# Altium footprint library Connector_JST.PcbLib: 558 footprints (part 28 of 35)
Each footprint in its own frame and in the unit in brackets; x right, y up, seen from the top. Pads: shape width x height; smd on the part's side, far side on the other; paste and mask are expansions set on the pad; w line width, h text height; cw(c..) or ccw(c..) is an arc to the next point about the centre after c.
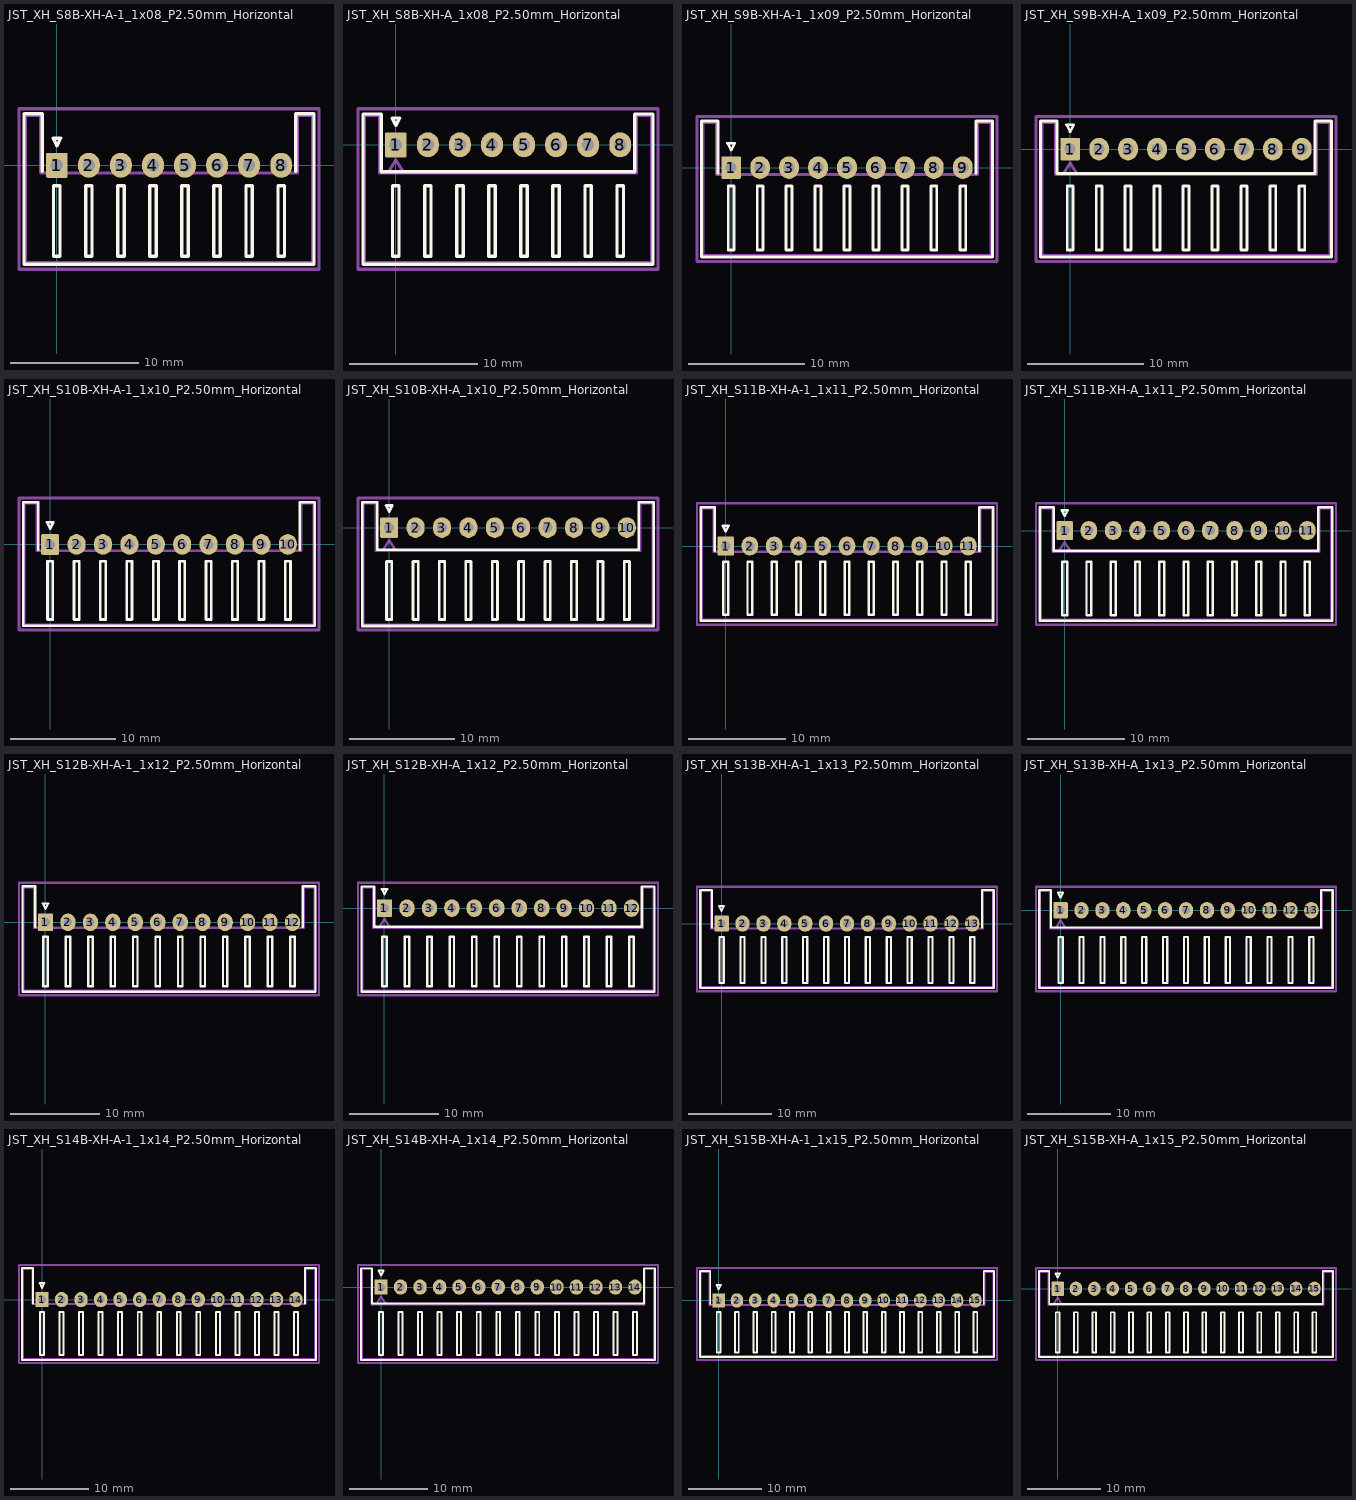
[diagram p27: the footprints below, top view; thin cyan lines are the x and y axes]

## JST_XH_S8B-XH-A-1_1x08_P2.50mm_Horizontal [mm] "JST_XH_S8B-XH-A-1_1x08_P2.50mm_Horizontal"
pads (8):
  rrect15% 1.7x1.95 hole 0.95: 1(0,0)
  rrect100% 1.7x1.95 hole 0.95: 2(2.5,0) 3(5,0) 4(7.5,0) 5(10,0) 6(12.5,0) 7(15,0) 8(17.5,0)
F.SilkS:
  lines w0.254: -1.14,-0.49 -1.14,4.01 -2.56,4.01 -2.56,-7.71 8.75,-7.71 20.06,-7.71 20.06,4.01 18.64,4.01 18.64,-0.49 ; -0.3,2.1 0,1.5 0.3,2.1 -0.3,2.1 ; -0.25,-7.1 0.25,-7.1 0.25,-1.6 -0.25,-1.6 -0.25,-7.1 ; 2.25,-7.1 2.75,-7.1 2.75,-1.6 2.25,-1.6 2.25,-7.1 ; 4.75,-7.1 5.25,-7.1 5.25,-1.6 4.75,-1.6 4.75,-7.1 ; 7.25,-7.1 7.75,-7.1 7.75,-1.6 7.25,-1.6 7.25,-7.1 ; 9.75,-7.1 10.25,-7.1 10.25,-1.6 9.75,-1.6 9.75,-7.1 ; 12.25,-7.1 12.75,-7.1 12.75,-1.6 12.25,-1.6 12.25,-7.1 ; 14.75,-7.1 15.25,-7.1 15.25,-1.6 14.75,-1.6 14.75,-7.1 ; 17.25,-7.1 17.75,-7.1 17.75,-1.6 17.25,-1.6 17.25,-7.1
Top Component Center:
  lines w0.127: -0.127,0 0.127,0 ; 0,-0.127 0,0.127
Top Assembly:
  lines w0.254: -0.625,-0.6 0,0.4 0.625,-0.6 ; -2.45,-7.6 8.75,-7.6 19.95,-7.6 19.95,3.9 18.75,3.9 18.75,-0.6 8.75,-0.6 -1.25,-0.6 -1.25,3.9 -2.45,3.9 -2.45,-7.6
Top Courtyard:
  lines w0.254: -2.95,-8.1 20.45,-8.1 20.45,4.4 -2.95,4.4 -2.95,-8.1
Top Designator:
  text ".Designator" at 4.952,2.196 h1.52
3D body "JST_XH_S8B-XH-A-1_1x08_P2.50mm_Horizontal.step": height 6.1, standoff -3.4, extent -2.45,-7.6 19.95,3.9

## JST_XH_S8B-XH-A_1x08_P2.50mm_Horizontal [mm] "JST_XH_S8B-XH-A_1x08_P2.50mm_Horizontal"
pads (8):
  rrect15% 1.7x1.95 hole 0.95: 1(0,0)
  rrect100% 1.7x1.95 hole 0.95: 2(2.5,0) 3(5,0) 4(7.5,0) 5(10,0) 6(12.5,0) 7(15,0) 8(17.5,0)
F.SilkS:
  lines w0.254: -2.56,-9.31 8.75,-9.31 20.06,-9.31 20.06,2.41 18.64,2.41 18.64,-2.09 8.75,-2.09 -1.14,-2.09 -1.14,2.41 -2.56,2.41 -2.56,-9.31 ; -0.3,2.1 0,1.5 0.3,2.1 -0.3,2.1 ; -0.25,-8.7 0.25,-8.7 0.25,-3.2 -0.25,-3.2 -0.25,-8.7 ; 2.25,-8.7 2.75,-8.7 2.75,-3.2 2.25,-3.2 2.25,-8.7 ; 4.75,-8.7 5.25,-8.7 5.25,-3.2 4.75,-3.2 4.75,-8.7 ; 7.25,-8.7 7.75,-8.7 7.75,-3.2 7.25,-3.2 7.25,-8.7 ; 9.75,-8.7 10.25,-8.7 10.25,-3.2 9.75,-3.2 9.75,-8.7 ; 12.25,-8.7 12.75,-8.7 12.75,-3.2 12.25,-3.2 12.25,-8.7 ; 14.75,-8.7 15.25,-8.7 15.25,-3.2 14.75,-3.2 14.75,-8.7 ; 17.25,-8.7 17.75,-8.7 17.75,-3.2 17.25,-3.2 17.25,-8.7
Top Component Center:
  lines w0.127: -0.127,0 0.127,0 ; 0,-0.127 0,0.127
Top Assembly:
  lines w0.254: -0.625,-2.2 0,-1.2 0.625,-2.2 ; -2.45,-9.2 8.75,-9.2 19.95,-9.2 19.95,2.3 18.75,2.3 18.75,-2.2 8.75,-2.2 -1.25,-2.2 -1.25,2.3 -2.45,2.3 -2.45,-9.2
Top Courtyard:
  lines w0.254: -2.95,-9.7 20.45,-9.7 20.45,2.81 -2.95,2.81 -2.95,-9.7
Top Designator:
  text ".Designator" at 5.206,1.434 h1.52
3D body "JST_XH_S8B-XH-A_1x08_P2.50mm_Horizontal.step": height 6.1, standoff -3.4, extent -2.45,-9.2 19.95,2.3

## JST_XH_S9B-XH-A-1_1x09_P2.50mm_Horizontal [mm] "JST_XH_S9B-XH-A-1_1x09_P2.50mm_Horizontal"
pads (9):
  rrect15% 1.7x1.95 hole 0.95: 1(0,0)
  rrect100% 1.7x1.95 hole 0.95: 2(2.5,0) 3(5,0) 4(7.5,0) 5(10,0) 6(12.5,0) 7(15,0) 8(17.5,0) 9(20,0)
F.SilkS:
  lines w0.254: -1.14,-0.49 -1.14,4.01 -2.56,4.01 -2.56,-7.71 10,-7.71 22.56,-7.71 22.56,4.01 21.14,4.01 21.14,-0.49 ; -0.3,2.1 0.3,2.1 0,1.5 -0.3,2.1 ; -0.25,-7.1 -0.25,-1.6 0.25,-1.6 0.25,-7.1 -0.25,-7.1 ; 2.25,-7.1 2.25,-1.6 2.75,-1.6 2.75,-7.1 2.25,-7.1 ; 4.75,-7.1 4.75,-1.6 5.25,-1.6 5.25,-7.1 4.75,-7.1 ; 7.25,-7.1 7.25,-1.6 7.75,-1.6 7.75,-7.1 7.25,-7.1 ; 9.75,-7.1 9.75,-1.6 10.25,-1.6 10.25,-7.1 9.75,-7.1 ; 12.25,-7.1 12.25,-1.6 12.75,-1.6 12.75,-7.1 12.25,-7.1 ; 14.75,-7.1 14.75,-1.6 15.25,-1.6 15.25,-7.1 14.75,-7.1 ; 17.25,-7.1 17.25,-1.6 17.75,-1.6 17.75,-7.1 17.25,-7.1 ; 19.75,-7.1 19.75,-1.6 20.25,-1.6 20.25,-7.1 19.75,-7.1
Top Component Center:
  lines w0.127: -0.127,0 0.127,0 ; 0,-0.127 0,0.127
Top Assembly:
  lines w0.254: -0.625,-0.6 0,0.4 0.625,-0.6 ; -2.45,-7.6 -2.45,3.9 -1.25,3.9 -1.25,-0.6 10,-0.6 21.25,-0.6 21.25,3.9 22.45,3.9 22.45,-7.6 10,-7.6 -2.45,-7.6
Top Courtyard:
  lines w0.254: -2.95,-8.1 -2.95,4.4 22.95,4.4 22.95,-8.1 -2.95,-8.1
Top Designator:
  text ".Designator" at 6.603,2.323 h1.52
3D body "JST_XH_S9B-XH-A-1_1x09_P2.50mm_Horizontal.step": height 6.1, standoff -3.4, extent -2.45,-7.6 22.45,3.9

## JST_XH_S9B-XH-A_1x09_P2.50mm_Horizontal [mm] "JST_XH_S9B-XH-A_1x09_P2.50mm_Horizontal"
pads (9):
  rrect15% 1.7x1.95 hole 0.95: 1(0,0)
  rrect100% 1.7x1.95 hole 0.95: 2(2.5,0) 3(5,0) 4(7.5,0) 5(10,0) 6(12.5,0) 7(15,0) 8(17.5,0) 9(20,0)
F.SilkS:
  lines w0.254: -2.56,-9.31 10,-9.31 22.56,-9.31 22.56,2.41 21.14,2.41 21.14,-2.09 10,-2.09 -1.14,-2.09 -1.14,2.41 -2.56,2.41 -2.56,-9.31 ; -0.3,2.1 0,1.5 0.3,2.1 -0.3,2.1 ; -0.25,-8.7 0.25,-8.7 0.25,-3.2 -0.25,-3.2 -0.25,-8.7 ; 2.25,-8.7 2.75,-8.7 2.75,-3.2 2.25,-3.2 2.25,-8.7 ; 4.75,-8.7 5.25,-8.7 5.25,-3.2 4.75,-3.2 4.75,-8.7 ; 7.25,-8.7 7.75,-8.7 7.75,-3.2 7.25,-3.2 7.25,-8.7 ; 9.75,-8.7 10.25,-8.7 10.25,-3.2 9.75,-3.2 9.75,-8.7 ; 12.25,-8.7 12.75,-8.7 12.75,-3.2 12.25,-3.2 12.25,-8.7 ; 14.75,-8.7 15.25,-8.7 15.25,-3.2 14.75,-3.2 14.75,-8.7 ; 17.25,-8.7 17.75,-8.7 17.75,-3.2 17.25,-3.2 17.25,-8.7 ; 19.75,-8.7 20.25,-8.7 20.25,-3.2 19.75,-3.2 19.75,-8.7
Top Component Center:
  lines w0.127: -0.127,0 0.127,0 ; 0,-0.127 0,0.127
Top Assembly:
  lines w0.254: -0.625,-2.2 0,-1.2 0.625,-2.2 ; -2.45,-9.2 10,-9.2 22.45,-9.2 22.45,2.3 21.25,2.3 21.25,-2.2 10,-2.2 -1.25,-2.2 -1.25,2.3 -2.45,2.3 -2.45,-9.2
Top Courtyard:
  lines w0.254: -2.95,-9.7 22.95,-9.7 22.95,2.81 -2.95,2.81 -2.95,-9.7
Top Designator:
  text ".Designator" at 6.222,1.561 h1.52
3D body "JST_XH_S9B-XH-A_1x09_P2.50mm_Horizontal.step": height 6.1, standoff -3.4, extent -2.45,-9.2 22.45,2.3

## JST_XH_S10B-XH-A-1_1x10_P2.50mm_Horizontal [mm] "JST_XH_S10B-XH-A-1_1x10_P2.50mm_Horizontal"
pads (10):
  rrect15% 1.7x1.95 hole 0.95: 1(0,0)
  rrect100% 1.7x1.95 hole 0.95: 2(2.5,0) 3(5,0) 4(7.5,0) 5(10,0) 6(12.5,0) 7(15,0) 8(17.5,0) 9(20,0) 10(22.5,0)
F.SilkS:
  lines w0.254: -1.14,-0.49 -1.14,4.01 -2.56,4.01 -2.56,-7.71 11.25,-7.71 25.06,-7.71 25.06,4.01 23.64,4.01 23.64,-0.49 ; -0.3,2.1 0.3,2.1 0,1.5 -0.3,2.1 ; -0.25,-7.1 -0.25,-1.6 0.25,-1.6 0.25,-7.1 -0.25,-7.1 ; 2.25,-7.1 2.25,-1.6 2.75,-1.6 2.75,-7.1 2.25,-7.1 ; 4.75,-7.1 4.75,-1.6 5.25,-1.6 5.25,-7.1 4.75,-7.1 ; 7.25,-7.1 7.25,-1.6 7.75,-1.6 7.75,-7.1 7.25,-7.1 ; 9.75,-7.1 9.75,-1.6 10.25,-1.6 10.25,-7.1 9.75,-7.1 ; 12.25,-7.1 12.25,-1.6 12.75,-1.6 12.75,-7.1 12.25,-7.1 ; 14.75,-7.1 14.75,-1.6 15.25,-1.6 15.25,-7.1 14.75,-7.1 ; 17.25,-7.1 17.25,-1.6 17.75,-1.6 17.75,-7.1 17.25,-7.1 ; 19.75,-7.1 19.75,-1.6 20.25,-1.6 20.25,-7.1 19.75,-7.1 ; 22.25,-7.1 22.25,-1.6 22.75,-1.6 22.75,-7.1 22.25,-7.1
Top Component Center:
  lines w0.127: -0.127,0 0.127,0 ; 0,-0.127 0,0.127
Top Assembly:
  lines w0.254: -0.625,-0.6 0,0.4 0.625,-0.6 ; -2.45,-7.6 -2.45,3.9 -1.25,3.9 -1.25,-0.6 11.25,-0.6 23.75,-0.6 23.75,3.9 24.95,3.9 24.95,-7.6 11.25,-7.6 -2.45,-7.6
Top Courtyard:
  lines w0.254: -2.95,-8.1 -2.95,4.4 25.45,4.4 25.45,-8.1 -2.95,-8.1
Top Designator:
  text ".Designator" at 7.873,1.815 h1.52
3D body "JST_XH_S10B-XH-A-1_1x10_P2.50mm_Horizontal.step": height 6.1, standoff -3.4, extent -2.45,-7.6 24.95,3.9

## JST_XH_S10B-XH-A_1x10_P2.50mm_Horizontal [mm] "JST_XH_S10B-XH-A_1x10_P2.50mm_Horizontal"
pads (10):
  rrect15% 1.7x1.95 hole 0.95: 1(0,0)
  rrect100% 1.7x1.95 hole 0.95: 2(2.5,0) 3(5,0) 4(7.5,0) 5(10,0) 6(12.5,0) 7(15,0) 8(17.5,0) 9(20,0) 10(22.5,0)
F.SilkS:
  lines w0.254: -2.56,-9.31 -2.56,2.41 -1.14,2.41 -1.14,-2.09 11.25,-2.09 23.64,-2.09 23.64,2.41 25.06,2.41 25.06,-9.31 11.25,-9.31 -2.56,-9.31 ; -0.3,2.1 0.3,2.1 0,1.5 -0.3,2.1 ; -0.25,-8.7 -0.25,-3.2 0.25,-3.2 0.25,-8.7 -0.25,-8.7 ; 2.25,-8.7 2.25,-3.2 2.75,-3.2 2.75,-8.7 2.25,-8.7 ; 4.75,-8.7 4.75,-3.2 5.25,-3.2 5.25,-8.7 4.75,-8.7 ; 7.25,-8.7 7.25,-3.2 7.75,-3.2 7.75,-8.7 7.25,-8.7 ; 9.75,-8.7 9.75,-3.2 10.25,-3.2 10.25,-8.7 9.75,-8.7 ; 12.25,-8.7 12.25,-3.2 12.75,-3.2 12.75,-8.7 12.25,-8.7 ; 14.75,-8.7 14.75,-3.2 15.25,-3.2 15.25,-8.7 14.75,-8.7 ; 17.25,-8.7 17.25,-3.2 17.75,-3.2 17.75,-8.7 17.25,-8.7 ; 19.75,-8.7 19.75,-3.2 20.25,-3.2 20.25,-8.7 19.75,-8.7 ; 22.25,-8.7 22.25,-3.2 22.75,-3.2 22.75,-8.7 22.25,-8.7
Top Component Center:
  lines w0.127: -0.127,0 0.127,0 ; 0,-0.127 0,0.127
Top Assembly:
  lines w0.254: -0.625,-2.2 0,-1.2 0.625,-2.2 ; -2.45,-9.2 -2.45,2.3 -1.25,2.3 -1.25,-2.2 11.25,-2.2 23.75,-2.2 23.75,2.3 24.95,2.3 24.95,-9.2 11.25,-9.2 -2.45,-9.2
Top Courtyard:
  lines w0.254: -2.95,-9.7 -2.95,2.81 25.45,2.81 25.45,-9.7 -2.95,-9.7
Top Designator:
  text ".Designator" at 7.746,1.307 h1.52
3D body "JST_XH_S10B-XH-A_1x10_P2.50mm_Horizontal.step": height 6.1, standoff -3.4, extent -2.45,-9.2 24.95,2.3

## JST_XH_S11B-XH-A-1_1x11_P2.50mm_Horizontal [mm] "JST_XH_S11B-XH-A-1_1x11_P2.50mm_Horizontal"
pads (11):
  rrect15% 1.7x1.95 hole 0.95: 1(0,0)
  rrect100% 1.7x1.95 hole 0.95: 2(2.5,0) 3(5,0) 4(7.5,0) 5(10,0) 6(12.5,0) 7(15,0) 8(17.5,0) 9(20,0) 10(22.5,0) 11(25,0)
F.SilkS:
  lines w0.254: -1.14,-0.49 -1.14,4.01 -2.56,4.01 -2.56,-7.71 12.5,-7.71 27.56,-7.71 27.56,4.01 26.14,4.01 26.14,-0.49 ; -0.3,2.1 0,1.5 0.3,2.1 -0.3,2.1 ; -0.25,-7.1 0.25,-7.1 0.25,-1.6 -0.25,-1.6 -0.25,-7.1 ; 2.25,-7.1 2.75,-7.1 2.75,-1.6 2.25,-1.6 2.25,-7.1 ; 4.75,-7.1 5.25,-7.1 5.25,-1.6 4.75,-1.6 4.75,-7.1 ; 7.25,-7.1 7.75,-7.1 7.75,-1.6 7.25,-1.6 7.25,-7.1 ; 9.75,-7.1 10.25,-7.1 10.25,-1.6 9.75,-1.6 9.75,-7.1 ; 12.25,-7.1 12.75,-7.1 12.75,-1.6 12.25,-1.6 12.25,-7.1 ; 14.75,-7.1 15.25,-7.1 15.25,-1.6 14.75,-1.6 14.75,-7.1 ; 17.25,-7.1 17.75,-7.1 17.75,-1.6 17.25,-1.6 17.25,-7.1 ; 19.75,-7.1 20.25,-7.1 20.25,-1.6 19.75,-1.6 19.75,-7.1 ; 22.25,-7.1 22.75,-7.1 22.75,-1.6 22.25,-1.6 22.25,-7.1 ; 24.75,-7.1 25.25,-7.1 25.25,-1.6 24.75,-1.6 24.75,-7.1
Top Component Center:
  lines w0.127: -0.127,0 0.127,0 ; 0,-0.127 0,0.127
Top Assembly:
  lines w0.254: -0.625,-0.6 0,0.4 0.625,-0.6 ; -2.45,-7.6 12.5,-7.6 27.45,-7.6 27.45,3.9 26.25,3.9 26.25,-0.6 12.5,-0.6 -1.25,-0.6 -1.25,3.9 -2.45,3.9 -2.45,-7.6
Top Courtyard:
  lines w0.254: -2.95,-8.1 27.95,-8.1 27.95,4.4 -2.95,4.4 -2.95,-8.1
Top Designator:
  text ".Designator" at 9.143,2.196 h1.52
3D body "JST_XH_S11B-XH-A-1_1x11_P2.50mm_Horizontal.step": height 6.1, standoff -3.4, extent -2.45,-7.6 27.45,3.9

## JST_XH_S11B-XH-A_1x11_P2.50mm_Horizontal [mm] "JST_XH_S11B-XH-A_1x11_P2.50mm_Horizontal"
pads (11):
  rrect15% 1.7x1.95 hole 0.95: 1(0,0)
  rrect100% 1.7x1.95 hole 0.95: 2(2.5,0) 3(5,0) 4(7.5,0) 5(10,0) 6(12.5,0) 7(15,0) 8(17.5,0) 9(20,0) 10(22.5,0) 11(25,0)
F.SilkS:
  lines w0.254: -2.56,-9.31 12.5,-9.31 27.56,-9.31 27.56,2.41 26.14,2.41 26.14,-2.09 12.5,-2.09 -1.14,-2.09 -1.14,2.41 -2.56,2.41 -2.56,-9.31 ; -0.3,2.1 0,1.5 0.3,2.1 -0.3,2.1 ; -0.25,-8.7 0.25,-8.7 0.25,-3.2 -0.25,-3.2 -0.25,-8.7 ; 2.25,-8.7 2.75,-8.7 2.75,-3.2 2.25,-3.2 2.25,-8.7 ; 4.75,-8.7 5.25,-8.7 5.25,-3.2 4.75,-3.2 4.75,-8.7 ; 7.25,-8.7 7.75,-8.7 7.75,-3.2 7.25,-3.2 7.25,-8.7 ; 9.75,-8.7 10.25,-8.7 10.25,-3.2 9.75,-3.2 9.75,-8.7 ; 12.25,-8.7 12.75,-8.7 12.75,-3.2 12.25,-3.2 12.25,-8.7 ; 14.75,-8.7 15.25,-8.7 15.25,-3.2 14.75,-3.2 14.75,-8.7 ; 17.25,-8.7 17.75,-8.7 17.75,-3.2 17.25,-3.2 17.25,-8.7 ; 19.75,-8.7 20.25,-8.7 20.25,-3.2 19.75,-3.2 19.75,-8.7 ; 22.25,-8.7 22.75,-8.7 22.75,-3.2 22.25,-3.2 22.25,-8.7 ; 24.75,-8.7 25.25,-8.7 25.25,-3.2 24.75,-3.2 24.75,-8.7
Top Component Center:
  lines w0.127: -0.127,0 0.127,0 ; 0,-0.127 0,0.127
Top Assembly:
  lines w0.254: -0.625,-2.2 0,-1.2 0.625,-2.2 ; -2.45,-9.2 12.5,-9.2 27.45,-9.2 27.45,2.3 26.25,2.3 26.25,-2.2 12.5,-2.2 -1.25,-2.2 -1.25,2.3 -2.45,2.3 -2.45,-9.2
Top Courtyard:
  lines w0.254: -2.95,-9.7 27.95,-9.7 27.95,2.81 -2.95,2.81 -2.95,-9.7
Top Designator:
  text ".Designator" at 8.635,1.434 h1.52
3D body "JST_XH_S11B-XH-A_1x11_P2.50mm_Horizontal.step": height 6.1, standoff -3.4, extent -2.45,-9.2 27.45,2.3

## JST_XH_S12B-XH-A-1_1x12_P2.50mm_Horizontal [mm] "JST_XH_S12B-XH-A-1_1x12_P2.50mm_Horizontal"
pads (12):
  rrect15% 1.7x1.95 hole 0.95: 1(0,0)
  rrect100% 1.7x1.95 hole 0.95: 2(2.5,0) 3(5,0) 4(7.5,0) 5(10,0) 6(12.5,0) 7(15,0) 8(17.5,0) 9(20,0) 10(22.5,0) 11(25,0) 12(27.5,0)
F.SilkS:
  lines w0.254: -1.14,-0.49 -1.14,4.01 -2.56,4.01 -2.56,-7.71 13.75,-7.71 30.06,-7.71 30.06,4.01 28.64,4.01 28.64,-0.49 ; -0.3,2.1 0,1.5 0.3,2.1 -0.3,2.1 ; -0.25,-7.1 0.25,-7.1 0.25,-1.6 -0.25,-1.6 -0.25,-7.1 ; 2.25,-7.1 2.75,-7.1 2.75,-1.6 2.25,-1.6 2.25,-7.1 ; 4.75,-7.1 5.25,-7.1 5.25,-1.6 4.75,-1.6 4.75,-7.1 ; 7.25,-7.1 7.75,-7.1 7.75,-1.6 7.25,-1.6 7.25,-7.1 ; 9.75,-7.1 10.25,-7.1 10.25,-1.6 9.75,-1.6 9.75,-7.1 ; 12.25,-7.1 12.75,-7.1 12.75,-1.6 12.25,-1.6 12.25,-7.1 ; 14.75,-7.1 15.25,-7.1 15.25,-1.6 14.75,-1.6 14.75,-7.1 ; 17.25,-7.1 17.75,-7.1 17.75,-1.6 17.25,-1.6 17.25,-7.1 ; 19.75,-7.1 20.25,-7.1 20.25,-1.6 19.75,-1.6 19.75,-7.1 ; 22.25,-7.1 22.75,-7.1 22.75,-1.6 22.25,-1.6 22.25,-7.1 ; 24.75,-7.1 25.25,-7.1 25.25,-1.6 24.75,-1.6 24.75,-7.1 ; 27.25,-7.1 27.75,-7.1 27.75,-1.6 27.25,-1.6 27.25,-7.1
Top Component Center:
  lines w0.127: -0.127,0 0.127,0 ; 0,-0.127 0,0.127
Top Assembly:
  lines w0.254: -0.625,-0.6 0,0.4 0.625,-0.6 ; -2.45,-7.6 13.75,-7.6 29.95,-7.6 29.95,3.9 28.75,3.9 28.75,-0.6 13.75,-0.6 -1.25,-0.6 -1.25,3.9 -2.45,3.9 -2.45,-7.6
Top Courtyard:
  lines w0.254: -2.95,-8.1 30.45,-8.1 30.45,4.4 -2.95,4.4 -2.95,-8.1
Top Designator:
  text ".Designator" at 10.159,2.45 h1.52
3D body "JST_XH_S12B-XH-A-1_1x12_P2.50mm_Horizontal.step": height 6.1, standoff -3.4, extent -2.45,-7.6 29.95,3.9

## JST_XH_S12B-XH-A_1x12_P2.50mm_Horizontal [mm] "JST_XH_S12B-XH-A_1x12_P2.50mm_Horizontal"
pads (12):
  rrect15% 1.7x1.95 hole 0.95: 1(0,0)
  rrect100% 1.7x1.95 hole 0.95: 2(2.5,0) 3(5,0) 4(7.5,0) 5(10,0) 6(12.5,0) 7(15,0) 8(17.5,0) 9(20,0) 10(22.5,0) 11(25,0) 12(27.5,0)
F.SilkS:
  lines w0.254: -2.56,-9.31 13.75,-9.31 30.06,-9.31 30.06,2.41 28.64,2.41 28.64,-2.09 13.75,-2.09 -1.14,-2.09 -1.14,2.41 -2.56,2.41 -2.56,-9.31 ; -0.3,2.1 0,1.5 0.3,2.1 -0.3,2.1 ; -0.25,-8.7 0.25,-8.7 0.25,-3.2 -0.25,-3.2 -0.25,-8.7 ; 2.25,-8.7 2.75,-8.7 2.75,-3.2 2.25,-3.2 2.25,-8.7 ; 4.75,-8.7 5.25,-8.7 5.25,-3.2 4.75,-3.2 4.75,-8.7 ; 7.25,-8.7 7.75,-8.7 7.75,-3.2 7.25,-3.2 7.25,-8.7 ; 9.75,-8.7 10.25,-8.7 10.25,-3.2 9.75,-3.2 9.75,-8.7 ; 12.25,-8.7 12.75,-8.7 12.75,-3.2 12.25,-3.2 12.25,-8.7 ; 14.75,-8.7 15.25,-8.7 15.25,-3.2 14.75,-3.2 14.75,-8.7 ; 17.25,-8.7 17.75,-8.7 17.75,-3.2 17.25,-3.2 17.25,-8.7 ; 19.75,-8.7 20.25,-8.7 20.25,-3.2 19.75,-3.2 19.75,-8.7 ; 22.25,-8.7 22.75,-8.7 22.75,-3.2 22.25,-3.2 22.25,-8.7 ; 24.75,-8.7 25.25,-8.7 25.25,-3.2 24.75,-3.2 24.75,-8.7 ; 27.25,-8.7 27.75,-8.7 27.75,-3.2 27.25,-3.2 27.25,-8.7
Top Component Center:
  lines w0.127: -0.127,0 0.127,0 ; 0,-0.127 0,0.127
Top Assembly:
  lines w0.254: -0.625,-2.2 0,-1.2 0.625,-2.2 ; -2.45,-9.2 13.75,-9.2 29.95,-9.2 29.95,2.3 28.75,2.3 28.75,-2.2 13.75,-2.2 -1.25,-2.2 -1.25,2.3 -2.45,2.3 -2.45,-9.2
Top Courtyard:
  lines w0.254: -2.95,-9.7 30.45,-9.7 30.45,2.81 -2.95,2.81 -2.95,-9.7
Top Designator:
  text ".Designator" at 10.032,1.434 h1.52
3D body "JST_XH_S12B-XH-A_1x12_P2.50mm_Horizontal.step": height 6.1, standoff -3.4, extent -2.45,-9.2 29.95,2.3

## JST_XH_S13B-XH-A-1_1x13_P2.50mm_Horizontal [mm] "JST_XH_S13B-XH-A-1_1x13_P2.50mm_Horizontal"
pads (13):
  rrect15% 1.7x1.95 hole 0.95: 1(0,0)
  rrect100% 1.7x1.95 hole 0.95: 2(2.5,0) 3(5,0) 4(7.5,0) 5(10,0) 6(12.5,0) 7(15,0) 8(17.5,0) 9(20,0) 10(22.5,0) 11(25,0) 12(27.5,0) 13(30,0)
F.SilkS:
  lines w0.254: -1.14,-0.49 -1.14,4.01 -2.56,4.01 -2.56,-7.71 15,-7.71 32.56,-7.71 32.56,4.01 31.14,4.01 31.14,-0.49 ; -0.3,2.1 0,1.5 0.3,2.1 -0.3,2.1 ; -0.25,-7.1 0.25,-7.1 0.25,-1.6 -0.25,-1.6 -0.25,-7.1 ; 2.25,-7.1 2.75,-7.1 2.75,-1.6 2.25,-1.6 2.25,-7.1 ; 4.75,-7.1 5.25,-7.1 5.25,-1.6 4.75,-1.6 4.75,-7.1 ; 7.25,-7.1 7.75,-7.1 7.75,-1.6 7.25,-1.6 7.25,-7.1 ; 9.75,-7.1 10.25,-7.1 10.25,-1.6 9.75,-1.6 9.75,-7.1 ; 12.25,-7.1 12.75,-7.1 12.75,-1.6 12.25,-1.6 12.25,-7.1 ; 14.75,-7.1 15.25,-7.1 15.25,-1.6 14.75,-1.6 14.75,-7.1 ; 17.25,-7.1 17.75,-7.1 17.75,-1.6 17.25,-1.6 17.25,-7.1 ; 19.75,-7.1 20.25,-7.1 20.25,-1.6 19.75,-1.6 19.75,-7.1 ; 22.25,-7.1 22.75,-7.1 22.75,-1.6 22.25,-1.6 22.25,-7.1 ; 24.75,-7.1 25.25,-7.1 25.25,-1.6 24.75,-1.6 24.75,-7.1 ; 27.25,-7.1 27.75,-7.1 27.75,-1.6 27.25,-1.6 27.25,-7.1 ; 29.75,-7.1 30.25,-7.1 30.25,-1.6 29.75,-1.6 29.75,-7.1
Top Component Center:
  lines w0.127: -0.127,0 0.127,0 ; 0,-0.127 0,0.127
Top Assembly:
  lines w0.254: -0.625,-0.6 0,0.4 0.625,-0.6 ; -2.45,-7.6 15,-7.6 32.45,-7.6 32.45,3.9 31.25,3.9 31.25,-0.6 15,-0.6 -1.25,-0.6 -1.25,3.9 -2.45,3.9 -2.45,-7.6
Top Courtyard:
  lines w0.254: -2.95,-8.1 32.95,-8.1 32.95,4.4 -2.95,4.4 -2.95,-8.1
Top Designator:
  text ".Designator" at 11.302,2.45 h1.52
3D body "JST_XH_S13B-XH-A-1_1x13_P2.50mm_Horizontal.step": height 6.1, standoff -3.4, extent -2.45,-7.6 32.45,3.9

## JST_XH_S13B-XH-A_1x13_P2.50mm_Horizontal [mm] "JST_XH_S13B-XH-A_1x13_P2.50mm_Horizontal"
pads (13):
  rrect15% 1.7x1.95 hole 0.95: 1(0,0)
  rrect100% 1.7x1.95 hole 0.95: 2(2.5,0) 3(5,0) 4(7.5,0) 5(10,0) 6(12.5,0) 7(15,0) 8(17.5,0) 9(20,0) 10(22.5,0) 11(25,0) 12(27.5,0) 13(30,0)
F.SilkS:
  lines w0.254: -2.56,-9.31 15,-9.31 32.56,-9.31 32.56,2.41 31.14,2.41 31.14,-2.09 15,-2.09 -1.14,-2.09 -1.14,2.41 -2.56,2.41 -2.56,-9.31 ; -0.3,2.1 0,1.5 0.3,2.1 -0.3,2.1 ; -0.25,-8.7 0.25,-8.7 0.25,-3.2 -0.25,-3.2 -0.25,-8.7 ; 2.25,-8.7 2.75,-8.7 2.75,-3.2 2.25,-3.2 2.25,-8.7 ; 4.75,-8.7 5.25,-8.7 5.25,-3.2 4.75,-3.2 4.75,-8.7 ; 7.25,-8.7 7.75,-8.7 7.75,-3.2 7.25,-3.2 7.25,-8.7 ; 9.75,-8.7 10.25,-8.7 10.25,-3.2 9.75,-3.2 9.75,-8.7 ; 12.25,-8.7 12.75,-8.7 12.75,-3.2 12.25,-3.2 12.25,-8.7 ; 14.75,-8.7 15.25,-8.7 15.25,-3.2 14.75,-3.2 14.75,-8.7 ; 17.25,-8.7 17.75,-8.7 17.75,-3.2 17.25,-3.2 17.25,-8.7 ; 19.75,-8.7 20.25,-8.7 20.25,-3.2 19.75,-3.2 19.75,-8.7 ; 22.25,-8.7 22.75,-8.7 22.75,-3.2 22.25,-3.2 22.25,-8.7 ; 24.75,-8.7 25.25,-8.7 25.25,-3.2 24.75,-3.2 24.75,-8.7 ; 27.25,-8.7 27.75,-8.7 27.75,-3.2 27.25,-3.2 27.25,-8.7 ; 29.75,-8.7 30.25,-8.7 30.25,-3.2 29.75,-3.2 29.75,-8.7
Top Component Center:
  lines w0.127: -0.127,0 0.127,0 ; 0,-0.127 0,0.127
Top Assembly:
  lines w0.254: -0.625,-2.2 0,-1.2 0.625,-2.2 ; -2.45,-9.2 15,-9.2 32.45,-9.2 32.45,2.3 31.25,2.3 31.25,-2.2 15,-2.2 -1.25,-2.2 -1.25,2.3 -2.45,2.3 -2.45,-9.2
Top Courtyard:
  lines w0.254: -2.95,-9.7 32.95,-9.7 32.95,2.81 -2.95,2.81 -2.95,-9.7
Top Designator:
  text ".Designator" at 11.175,1.434 h1.52
3D body "JST_XH_S13B-XH-A_1x13_P2.50mm_Horizontal.step": height 6.1, standoff -3.4, extent -2.45,-9.2 32.45,2.3

## JST_XH_S14B-XH-A-1_1x14_P2.50mm_Horizontal [mm] "JST_XH_S14B-XH-A-1_1x14_P2.50mm_Horizontal"
pads (14):
  rrect15% 1.7x1.95 hole 0.95: 1(0,0)
  rrect100% 1.7x1.95 hole 0.95: 2(2.5,0) 3(5,0) 4(7.5,0) 5(10,0) 6(12.5,0) 7(15,0) 8(17.5,0) 9(20,0) 10(22.5,0) 11(25,0) 12(27.5,0) 13(30,0) 14(32.5,0)
F.SilkS:
  lines w0.254: -1.14,-0.49 -1.14,4.01 -2.56,4.01 -2.56,-7.71 16.25,-7.71 35.06,-7.71 35.06,4.01 33.64,4.01 33.64,-0.49 ; -0.3,2.1 0,1.5 0.3,2.1 -0.3,2.1 ; -0.25,-7.1 0.25,-7.1 0.25,-1.6 -0.25,-1.6 -0.25,-7.1 ; 2.25,-7.1 2.75,-7.1 2.75,-1.6 2.25,-1.6 2.25,-7.1 ; 4.75,-7.1 5.25,-7.1 5.25,-1.6 4.75,-1.6 4.75,-7.1 ; 7.25,-7.1 7.75,-7.1 7.75,-1.6 7.25,-1.6 7.25,-7.1 ; 9.75,-7.1 10.25,-7.1 10.25,-1.6 9.75,-1.6 9.75,-7.1 ; 12.25,-7.1 12.75,-7.1 12.75,-1.6 12.25,-1.6 12.25,-7.1 ; 14.75,-7.1 15.25,-7.1 15.25,-1.6 14.75,-1.6 14.75,-7.1 ; 17.25,-7.1 17.75,-7.1 17.75,-1.6 17.25,-1.6 17.25,-7.1 ; 19.75,-7.1 20.25,-7.1 20.25,-1.6 19.75,-1.6 19.75,-7.1 ; 22.25,-7.1 22.75,-7.1 22.75,-1.6 22.25,-1.6 22.25,-7.1 ; 24.75,-7.1 25.25,-7.1 25.25,-1.6 24.75,-1.6 24.75,-7.1 ; 27.25,-7.1 27.75,-7.1 27.75,-1.6 27.25,-1.6 27.25,-7.1 ; 29.75,-7.1 30.25,-7.1 30.25,-1.6 29.75,-1.6 29.75,-7.1 ; 32.25,-7.1 32.75,-7.1 32.75,-1.6 32.25,-1.6 32.25,-7.1
Top Component Center:
  lines w0.127: -0.127,0 0.127,0 ; 0,-0.127 0,0.127
Top Assembly:
  lines w0.254: -0.625,-0.6 0,0.4 0.625,-0.6 ; -2.45,-7.6 16.25,-7.6 34.95,-7.6 34.95,3.9 33.75,3.9 33.75,-0.6 16.25,-0.6 -1.25,-0.6 -1.25,3.9 -2.45,3.9 -2.45,-7.6
Top Courtyard:
  lines w0.254: -2.95,-8.1 35.45,-8.1 35.45,4.4 -2.95,4.4 -2.95,-8.1
Top Designator:
  text ".Designator" at 12.826,2.069 h1.52
3D body "JST_XH_S14B-XH-A-1_1x14_P2.50mm_Horizontal.step": height 6.1, standoff -3.4, extent -2.45,-7.6 34.95,3.9

## JST_XH_S14B-XH-A_1x14_P2.50mm_Horizontal [mm] "JST_XH_S14B-XH-A_1x14_P2.50mm_Horizontal"
pads (14):
  rrect15% 1.7x1.95 hole 0.95: 1(0,0)
  rrect100% 1.7x1.95 hole 0.95: 2(2.5,0) 3(5,0) 4(7.5,0) 5(10,0) 6(12.5,0) 7(15,0) 8(17.5,0) 9(20,0) 10(22.5,0) 11(25,0) 12(27.5,0) 13(30,0) 14(32.5,0)
F.SilkS:
  lines w0.254: -2.56,-9.31 -2.56,2.41 -1.14,2.41 -1.14,-2.09 16.25,-2.09 33.64,-2.09 33.64,2.41 35.06,2.41 35.06,-9.31 16.25,-9.31 -2.56,-9.31 ; -0.3,2.1 0.3,2.1 0,1.5 -0.3,2.1 ; -0.25,-8.7 -0.25,-3.2 0.25,-3.2 0.25,-8.7 -0.25,-8.7 ; 2.25,-8.7 2.25,-3.2 2.75,-3.2 2.75,-8.7 2.25,-8.7 ; 4.75,-8.7 4.75,-3.2 5.25,-3.2 5.25,-8.7 4.75,-8.7 ; 7.25,-8.7 7.25,-3.2 7.75,-3.2 7.75,-8.7 7.25,-8.7 ; 9.75,-8.7 9.75,-3.2 10.25,-3.2 10.25,-8.7 9.75,-8.7 ; 12.25,-8.7 12.25,-3.2 12.75,-3.2 12.75,-8.7 12.25,-8.7 ; 14.75,-8.7 14.75,-3.2 15.25,-3.2 15.25,-8.7 14.75,-8.7 ; 17.25,-8.7 17.25,-3.2 17.75,-3.2 17.75,-8.7 17.25,-8.7 ; 19.75,-8.7 19.75,-3.2 20.25,-3.2 20.25,-8.7 19.75,-8.7 ; 22.25,-8.7 22.25,-3.2 22.75,-3.2 22.75,-8.7 22.25,-8.7 ; 24.75,-8.7 24.75,-3.2 25.25,-3.2 25.25,-8.7 24.75,-8.7 ; 27.25,-8.7 27.25,-3.2 27.75,-3.2 27.75,-8.7 27.25,-8.7 ; 29.75,-8.7 29.75,-3.2 30.25,-3.2 30.25,-8.7 29.75,-8.7 ; 32.25,-8.7 32.25,-3.2 32.75,-3.2 32.75,-8.7 32.25,-8.7
Top Component Center:
  lines w0.127: -0.127,0 0.127,0 ; 0,-0.127 0,0.127
Top Assembly:
  lines w0.254: -0.625,-2.2 0,-1.2 0.625,-2.2 ; -2.45,-9.2 -2.45,2.3 -1.25,2.3 -1.25,-2.2 16.25,-2.2 33.75,-2.2 33.75,2.3 34.95,2.3 34.95,-9.2 16.25,-9.2 -2.45,-9.2
Top Courtyard:
  lines w0.254: -2.95,-9.7 -2.95,2.81 35.45,2.81 35.45,-9.7 -2.95,-9.7
Top Designator:
  text ".Designator" at 12.826,1.434 h1.52
3D body "JST_XH_S14B-XH-A_1x14_P2.50mm_Horizontal.step": height 6.1, standoff -3.4, extent -2.45,-9.2 34.95,2.3

## JST_XH_S15B-XH-A-1_1x15_P2.50mm_Horizontal [mm] "JST_XH_S15B-XH-A-1_1x15_P2.50mm_Horizontal"
pads (15):
  rrect15% 1.7x1.95 hole 0.95: 1(0,0)
  rrect100% 1.7x1.95 hole 0.95: 2(2.5,0) 3(5,0) 4(7.5,0) 5(10,0) 6(12.5,0) 7(15,0) 8(17.5,0) 9(20,0) 10(22.5,0) 11(25,0) 12(27.5,0) 13(30,0) 14(32.5,0) 15(35,0)
F.SilkS:
  lines w0.254: -1.14,-0.49 -1.14,4.01 -2.56,4.01 -2.56,-7.71 17.5,-7.71 37.56,-7.71 37.56,4.01 36.14,4.01 36.14,-0.49 ; -0.3,2.1 0,1.5 0.3,2.1 -0.3,2.1 ; -0.25,-7.1 0.25,-7.1 0.25,-1.6 -0.25,-1.6 -0.25,-7.1 ; 2.25,-7.1 2.75,-7.1 2.75,-1.6 2.25,-1.6 2.25,-7.1 ; 4.75,-7.1 5.25,-7.1 5.25,-1.6 4.75,-1.6 4.75,-7.1 ; 7.25,-7.1 7.75,-7.1 7.75,-1.6 7.25,-1.6 7.25,-7.1 ; 9.75,-7.1 10.25,-7.1 10.25,-1.6 9.75,-1.6 9.75,-7.1 ; 12.25,-7.1 12.75,-7.1 12.75,-1.6 12.25,-1.6 12.25,-7.1 ; 14.75,-7.1 15.25,-7.1 15.25,-1.6 14.75,-1.6 14.75,-7.1 ; 17.25,-7.1 17.75,-7.1 17.75,-1.6 17.25,-1.6 17.25,-7.1 ; 19.75,-7.1 20.25,-7.1 20.25,-1.6 19.75,-1.6 19.75,-7.1 ; 22.25,-7.1 22.75,-7.1 22.75,-1.6 22.25,-1.6 22.25,-7.1 ; 24.75,-7.1 25.25,-7.1 25.25,-1.6 24.75,-1.6 24.75,-7.1 ; 27.25,-7.1 27.75,-7.1 27.75,-1.6 27.25,-1.6 27.25,-7.1 ; 29.75,-7.1 30.25,-7.1 30.25,-1.6 29.75,-1.6 29.75,-7.1 ; 32.25,-7.1 32.75,-7.1 32.75,-1.6 32.25,-1.6 32.25,-7.1 ; 34.75,-7.1 35.25,-7.1 35.25,-1.6 34.75,-1.6 34.75,-7.1
Top Component Center:
  lines w0.127: -0.127,0 0.127,0 ; 0,-0.127 0,0.127
Top Assembly:
  lines w0.254: -0.625,-0.6 0,0.4 0.625,-0.6 ; -2.45,-7.6 17.5,-7.6 37.45,-7.6 37.45,3.9 36.25,3.9 36.25,-0.6 17.5,-0.6 -1.25,-0.6 -1.25,3.9 -2.45,3.9 -2.45,-7.6
Top Courtyard:
  lines w0.254: -2.95,-8.1 37.95,-8.1 37.95,4.4 -2.95,4.4 -2.95,-8.1
Top Designator:
  text ".Designator" at 13.842,2.45 h1.52
3D body "JST_XH_S15B-XH-A-1_1x15_P2.50mm_Horizontal.step": height 6.1, standoff -3.4, extent -2.45,-7.6 37.45,3.9

## JST_XH_S15B-XH-A_1x15_P2.50mm_Horizontal [mm] "JST_XH_S15B-XH-A_1x15_P2.50mm_Horizontal"
pads (15):
  rrect15% 1.7x1.95 hole 0.95: 1(0,0)
  rrect100% 1.7x1.95 hole 0.95: 2(2.5,0) 3(5,0) 4(7.5,0) 5(10,0) 6(12.5,0) 7(15,0) 8(17.5,0) 9(20,0) 10(22.5,0) 11(25,0) 12(27.5,0) 13(30,0) 14(32.5,0) 15(35,0)
F.SilkS:
  lines w0.254: -2.56,-9.31 -2.56,2.41 -1.14,2.41 -1.14,-2.09 17.5,-2.09 36.14,-2.09 36.14,2.41 37.56,2.41 37.56,-9.31 17.5,-9.31 -2.56,-9.31 ; -0.3,2.1 0.3,2.1 0,1.5 -0.3,2.1 ; -0.25,-8.7 -0.25,-3.2 0.25,-3.2 0.25,-8.7 -0.25,-8.7 ; 2.25,-8.7 2.25,-3.2 2.75,-3.2 2.75,-8.7 2.25,-8.7 ; 4.75,-8.7 4.75,-3.2 5.25,-3.2 5.25,-8.7 4.75,-8.7 ; 7.25,-8.7 7.25,-3.2 7.75,-3.2 7.75,-8.7 7.25,-8.7 ; 9.75,-8.7 9.75,-3.2 10.25,-3.2 10.25,-8.7 9.75,-8.7 ; 12.25,-8.7 12.25,-3.2 12.75,-3.2 12.75,-8.7 12.25,-8.7 ; 14.75,-8.7 14.75,-3.2 15.25,-3.2 15.25,-8.7 14.75,-8.7 ; 17.25,-8.7 17.25,-3.2 17.75,-3.2 17.75,-8.7 17.25,-8.7 ; 19.75,-8.7 19.75,-3.2 20.25,-3.2 20.25,-8.7 19.75,-8.7 ; 22.25,-8.7 22.25,-3.2 22.75,-3.2 22.75,-8.7 22.25,-8.7 ; 24.75,-8.7 24.75,-3.2 25.25,-3.2 25.25,-8.7 24.75,-8.7 ; 27.25,-8.7 27.25,-3.2 27.75,-3.2 27.75,-8.7 27.25,-8.7 ; 29.75,-8.7 29.75,-3.2 30.25,-3.2 30.25,-8.7 29.75,-8.7 ; 32.25,-8.7 32.25,-3.2 32.75,-3.2 32.75,-8.7 32.25,-8.7 ; 34.75,-8.7 34.75,-3.2 35.25,-3.2 35.25,-8.7 34.75,-8.7
Top Component Center:
  lines w0.127: -0.127,0 0.127,0 ; 0,-0.127 0,0.127
Top Assembly:
  lines w0.254: -0.625,-2.2 0,-1.2 0.625,-2.2 ; -2.45,-9.2 -2.45,2.3 -1.25,2.3 -1.25,-2.2 17.5,-2.2 36.25,-2.2 36.25,2.3 37.45,2.3 37.45,-9.2 17.5,-9.2 -2.45,-9.2
Top Courtyard:
  lines w0.254: -2.95,-9.7 -2.95,2.81 37.95,2.81 37.95,-9.7 -2.95,-9.7
Top Designator:
  text ".Designator" at 12.826,1.434 h1.52
3D body "JST_XH_S15B-XH-A_1x15_P2.50mm_Horizontal.step": height 6.1, standoff -3.4, extent -2.45,-9.2 37.45,2.3